# Altium footprint library PCB - RESISTOR - CHIP - RES 1206_3216.PCBLIB: 3 footprints
Each footprint in its own frame and in the unit in brackets; x right, y up, seen from the top. Pads: shape width x height; smd on the part's side, far side on the other; paste and mask are expansions set on the pad; w line width, h text height; cw(c..) or ccw(c..) is an arc to the next point about the centre after c.
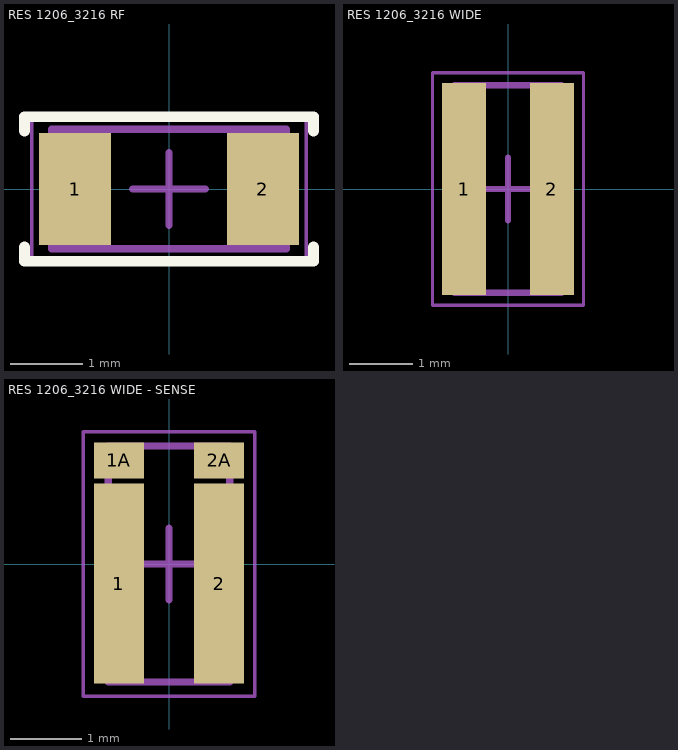
[diagram p0: the footprints below, top view; thin cyan lines are the x and y axes]

## RES 1206_3216 RF [mm] "Chip Resistor, 2-Leads, Body 3.13x1.55mm, IPC High Density"
height 0.7
pads (2):
  rect 1x1.55 smd: 1(-1.3,0) 2(1.3,0)
Top Overlay:
  lines w0.15: -2,-0.8 -2,-1 2,-1 2,-0.8 ; -2,0.8 -2,1 2,1 2,0.8
Mechanical 13:
  lines w0.1: -1.625,-0.825 1.625,-0.825 1.625,0.825 -1.625,0.825 -1.625,-0.825
Mechanical 15:
  lines w0.05: -1.9,-0.95 1.9,-0.95 1.9,0.95 -1.9,0.95 -1.9,-0.95
  lines w0.1: -0.5,0 0.5,0 ; 0,-0.5 0,0.5
3D body "1206 resistor.STEP": height 0.6, standoff 0, extent -1.6,-0.8 1.6,0.8

## RES 1206_3216 WIDE [mm] "Chip Resistor, 2-Leads, Body 1.60x3.20mm, IPC Medium Density"
height 0.5
pads (2):
  rect 0.7x3.375 smd mask+0.05: 1(-0.7,0) 2(0.7,0)
Mechanical 13:
  lines w0.1: -0.85,-1.65 -0.85,1.65 0.85,1.65 0.85,-1.65 -0.85,-1.65
Mechanical 15:
  lines w0.05: -1.2,-1.85 -1.2,1.85 1.2,1.85 1.2,-1.85 -1.2,-1.85
  lines w0.1: -0.5,0 0.5,0 ; 0,-0.5 0,0.5
3D body "RESC1632X05N.step": height 0.5, standoff 0, extent -0.85,-1.65 0.85,1.65

## RES 1206_3216 WIDE - SENSE [mm] "Chip Resistor, 2-Leads, Body 1.60x3.20mm, IPC Medium Density"
height 0.5
pads (4):
  rect 0.7x2.8 smd mask+0.05: 1(-0.7,-0.275) 2(0.7,-0.275)
  rect 0.7x0.5 smd mask+0.05: 1A(-0.7,1.45) 2A(0.7,1.45)
Mechanical 13:
  lines w0.1: -0.85,-1.65 -0.85,1.65 0.85,1.65 0.85,-1.65 -0.85,-1.65
Mechanical 15:
  lines w0.05: -1.2,-1.85 -1.2,1.85 1.2,1.85 1.2,-1.85 -1.2,-1.85
  lines w0.1: -0.5,0 0.5,0 ; 0,-0.5 0,0.5
3D body "RESC1632X05N.step": height 0.5, standoff 0, extent -0.85,-1.65 0.85,1.65